# EAGLE library part CC1120-HEADER (library CC11x)
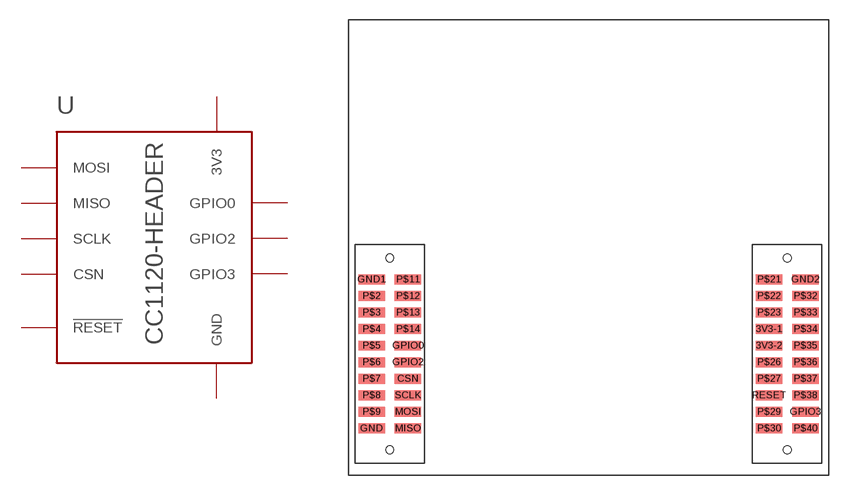
[diagram p3: symbol with the pads of CC1120-HEADERS-SMT; footprint CC1120-HEADERS-SMT]

Designator prefix -

## CC1120-HEADER-SMT (MANUFACTURER: HARWIN; MPN: M50-3601042; OC_FARNEL: CN14037; QTY: 2)  [CC1120-HEADERS-SMT]
3V3-1  3V3  pwr
3V3-2  3V3  pwr
CSN  CSN  in
GND  GND  pwr
GND1  GND  pwr
GND2  GND  pwr
GPIO0  GPIO0
GPIO2  GPIO2
GPIO3  GPIO3
MISO  MISO  out
MOSI  MOSI  in
RESET  !RESET  in
SCLK  SCLK  in

## CC1120-HEADERCC1120-REFERENCE-2-LAYER  [CC1120-HEADERS-SMT]

## Footprint CC1120-HEADERS-SMT (pad centres in mm)
smd 2.032 x 0.762: 3V3-1 13.97,1.905; 3V3-2 13.97,0.635; CSN -13.716,-1.905; GND -16.51,-5.715; GND1 -16.51,5.715; GND2 16.764,5.715; GPIO0 -13.716,0.635; GPIO2 -13.716,-0.635; GPIO3 16.764,-4.445; MISO -13.716,-5.715; MOSI -13.716,-4.445; P$2 -16.51,4.445; P$3 -16.51,3.175; P$4 -16.51,1.905; P$5 -16.51,0.635; P$6 -16.51,-0.635; P$7 -16.51,-1.905; P$8 -16.51,-3.175; P$9 -16.51,-4.445; P$11 -13.716,5.715; P$12 -13.716,4.445; P$13 -13.716,3.175; P$14 -13.716,1.905; P$21 13.97,5.715; P$22 13.97,4.445; P$23 13.97,3.175; P$26 13.97,-0.635; P$27 13.97,-1.905; P$29 13.97,-4.445; P$30 13.97,-5.715; P$32 16.764,4.445; P$33 16.764,3.175; P$34 16.764,1.905; P$35 16.764,0.635; P$36 16.764,-0.635; P$37 16.764,-1.905; P$38 16.764,-3.175; P$40 16.764,-5.715; RESET 13.97,-3.175; SCLK -13.716,-3.175
hole 0.6 at -15.113,7.366
hole 0.6 at 15.367,7.366
hole 0.6 at -15.113,-7.366
hole 0.6 at 15.367,-7.366